# EAGLE library part 416131160806 (library WS-DISV)
WS-DISV Small Compact SMT Flat Actuator with Top Tape 1.27 mm Material Properties Cover Material PPA Cover Flammability Rating UL94 V-0 Base Material PPA Base Flammability Rating UL94 V-0 Actuator Material PA46; co Actuator Flammability Rating UL94 V-0 Contact Plating Gold Terminal Plating Gold General Information Operating Temperature -40 °C up to +85 °C Washable Yes Electrical Properties IR 100 mA VR 50 V (DC) Contact Resistance Initial 100 mΩ RISO 100 MΩ Withstanding Voltage 300 V (AC) Mechanical Properties Operation Force (Value) 500 g Electrical Life 1000 Cycles Actuator Type Flat Type Switch Position Off Packaging Properties Packaging Tape and Reel <https://www.we-online.com/components/media/o78362v209%20FAMILY-WS-DISV-4161311608xx.jpg> Details see: www.we-online.com/en/components/products/DISV_1_27_SMALL_COMPACT_SMD_FLAT_ACTUATOR <www.we-online.com/catalog/DISV_1_27_SMALL_COMPACT_SMD_FLAT_ACTUATOR/?utm_source=eagle_model&utm_medium=description_link&utm_campaign=eisos_eagle> Updated by Ella 2024-05-28 2024 (C) Würth Elektronik
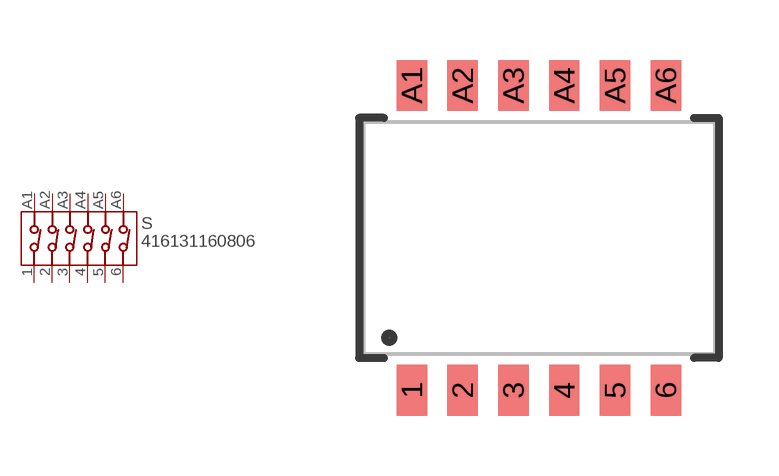
[diagram p10: symbol with the pads of 416131160806; footprint 416131160806]

Designator prefix S

## 416131160806 (DATASHEET-URL: https://www.we-online.com/redexpert/spec/416131160806?ae; LENGTH: 8.79mm; MOUNT: SMT; PART-NUMBER: 416131160806; PITCH: 1.27mm; POLES: 6; VALUE: 416131160806; VAPORPHASE-PROCESS: Yes)  [416131160806]
1  1  pas
2  2  pas
3  3  pas
4  4  pas
5  5  pas
6  6  pas
A1  A1  pas
A2  A2  pas
A3  A3  pas
A4  A4  pas
A5  A5  pas
A6  A6  pas

## Footprint 416131160806 (pad centres in mm)
WS-DISV Small Compact SMT Flat Actuator with Top Tape 1.27 mm,6Pole
smd 0.76 x 1.27: 1 -3.175,-3.81; 2 -1.905,-3.81; 3 -0.635,-3.81; 4 0.635,-3.81; 5 1.905,-3.81; 6 3.175,-3.81; A1 -3.175,3.81; A2 -1.905,3.81; A3 -0.635,3.81; A4 0.635,3.81; A5 1.905,3.81; A6 3.175,3.81